# Altium footprint library ad.PcbLib: 129 footprints (part 5 of 12)
Each footprint in its own frame and in the unit in brackets; x right, y up, seen from the top. Pads: shape width x height; smd on the part's side, far side on the other; paste and mask are expansions set on the pad; w line width, h text height; cw(c..) or ccw(c..) is an arc to the next point about the centre after c.
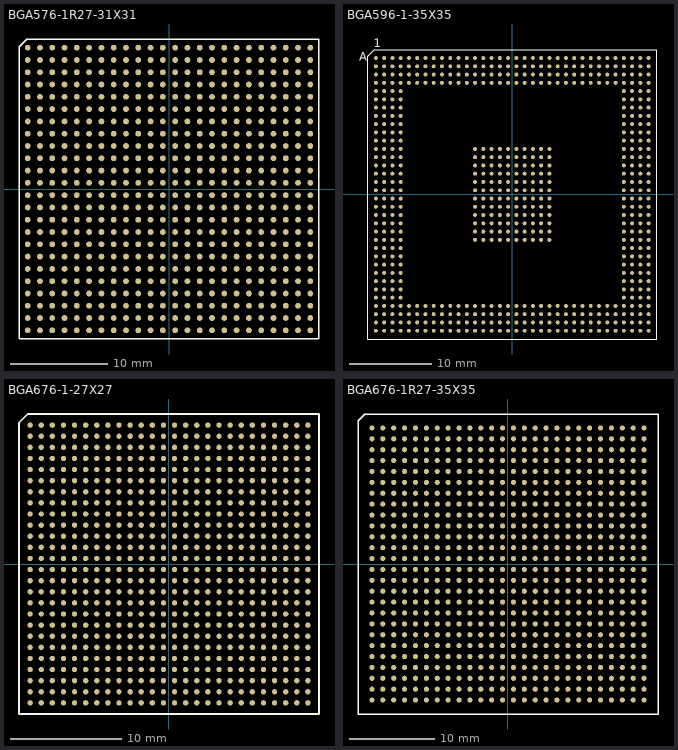
[diagram p4: the footprints below, top view; thin cyan lines are the x and y axes]

## BGA576-1R27-31X31 [mm]
pads (576):
  round 0.6 smd: A1(-14.605,14.605) A2(-13.335,14.605) A3(-12.065,14.605) A4(-10.795,14.605) A5(-9.525,14.605) A6(-8.255,14.605) A7(-6.985,14.605) A8(-5.715,14.605) A9(-4.445,14.605) A10(-3.175,14.605) A11(-1.905,14.605) A12(-0.635,14.605) A13(0.635,14.605) A14(1.905,14.605) A15(3.175,14.605) A16(4.445,14.605) A17(5.715,14.605) A18(6.985,14.605) A19(8.255,14.605) A20(9.525,14.605) A21(10.795,14.605) A22(12.065,14.605) A23(13.335,14.605) A24(14.605,14.605) AA1(-14.605,-10.795) AA2(-13.335,-10.795) AA3(-12.065,-10.795) AA4(-10.795,-10.795) AA5(-9.525,-10.795) AA6(-8.255,-10.795) AA7(-6.985,-10.795) AA8(-5.715,-10.795) AA9(-4.445,-10.795) AA10(-3.175,-10.795) AA11(-1.905,-10.795) AA12(-0.635,-10.795) AA13(0.635,-10.795) AA14(1.905,-10.795) AA15(3.175,-10.795) AA16(4.445,-10.795) AA17(5.715,-10.795) AA18(6.985,-10.795) AA19(8.255,-10.795) AA20(9.525,-10.795) AA21(10.795,-10.795) AA22(12.065,-10.795) AA23(13.335,-10.795) AA24(14.605,-10.795) AB1(-14.605,-12.065) AB2(-13.335,-12.065) AB3(-12.065,-12.065) AB4(-10.795,-12.065) AB5(-9.525,-12.065) AB6(-8.255,-12.065) AB7(-6.985,-12.065) AB8(-5.715,-12.065) AB9(-4.445,-12.065) AB10(-3.175,-12.065) AB11(-1.905,-12.065) AB12(-0.635,-12.065) AB13(0.635,-12.065) AB14(1.905,-12.065) AB15(3.175,-12.065) AB16(4.445,-12.065) AB17(5.715,-12.065) AB18(6.985,-12.065) AB19(8.255,-12.065) AB20(9.525,-12.065) AB21(10.795,-12.065) AB22(12.065,-12.065) AB23(13.335,-12.065) AB24(14.605,-12.065) AC1(-14.605,-13.335) AC2(-13.335,-13.335) AC3(-12.065,-13.335) AC4(-10.795,-13.335) AC5(-9.525,-13.335) AC6(-8.255,-13.335) AC7(-6.985,-13.335) AC8(-5.715,-13.335) AC9(-4.445,-13.335) AC10(-3.175,-13.335) AC11(-1.905,-13.335) AC12(-0.635,-13.335) AC13(0.635,-13.335) AC14(1.905,-13.335) AC15(3.175,-13.335) AC16(4.445,-13.335) AC17(5.715,-13.335) AC18(6.985,-13.335) AC19(8.255,-13.335) AC20(9.525,-13.335) AC21(10.795,-13.335) AC22(12.065,-13.335) AC23(13.335,-13.335) AC24(14.605,-13.335) AD1(-14.605,-14.605) AD2(-13.335,-14.605) AD3(-12.065,-14.605) AD4(-10.795,-14.605) AD5(-9.525,-14.605) AD6(-8.255,-14.605) AD7(-6.985,-14.605) AD8(-5.715,-14.605) AD9(-4.445,-14.605) AD10(-3.175,-14.605) AD11(-1.905,-14.605) AD12(-0.635,-14.605) AD13(0.635,-14.605) AD14(1.905,-14.605) AD15(3.175,-14.605) AD16(4.445,-14.605) AD17(5.715,-14.605) AD18(6.985,-14.605) AD19(8.255,-14.605) AD20(9.525,-14.605) AD21(10.795,-14.605) AD22(12.065,-14.605) AD23(13.335,-14.605) AD24(14.605,-14.605) B1(-14.605,13.335) B2(-13.335,13.335) B3(-12.065,13.335) B4(-10.795,13.335) B5(-9.525,13.335) B6(-8.255,13.335) B7(-6.985,13.335) B8(-5.715,13.335) B9(-4.445,13.335) B10(-3.175,13.335) B11(-1.905,13.335) B12(-0.635,13.335) B13(0.635,13.335) B14(1.905,13.335) B15(3.175,13.335) B16(4.445,13.335) B17(5.715,13.335) B18(6.985,13.335) B19(8.255,13.335) B20(9.525,13.335) B21(10.795,13.335) B22(12.065,13.335) B23(13.335,13.335) B24(14.605,13.335) C1(-14.605,12.065) C2(-13.335,12.065) C3(-12.065,12.065) C4(-10.795,12.065) C5(-9.525,12.065) C6(-8.255,12.065) C7(-6.985,12.065) C8(-5.715,12.065) C9(-4.445,12.065) C10(-3.175,12.065) C11(-1.905,12.065) C12(-0.635,12.065) C13(0.635,12.065) C14(1.905,12.065) C15(3.175,12.065) C16(4.445,12.065) C17(5.715,12.065) C18(6.985,12.065) C19(8.255,12.065) C20(9.525,12.065) C21(10.795,12.065) C22(12.065,12.065) C23(13.335,12.065) C24(14.605,12.065) D1(-14.605,10.795) D2(-13.335,10.795) D3(-12.065,10.795) D4(-10.795,10.795) D5(-9.525,10.795) D6(-8.255,10.795) D7(-6.985,10.795) D8(-5.715,10.795) D9(-4.445,10.795) D10(-3.175,10.795) D11(-1.905,10.795) D12(-0.635,10.795) D13(0.635,10.795) D14(1.905,10.795) D15(3.175,10.795) D16(4.445,10.795) D17(5.715,10.795) D18(6.985,10.795) D19(8.255,10.795) D20(9.525,10.795) D21(10.795,10.795) D22(12.065,10.795) D23(13.335,10.795) D24(14.605,10.795) E1(-14.605,9.525) E2(-13.335,9.525) E3(-12.065,9.525) E4(-10.795,9.525) E5(-9.525,9.525) E6(-8.255,9.525) E7(-6.985,9.525) E8(-5.715,9.525) E9(-4.445,9.525) E10(-3.175,9.525) E11(-1.905,9.525) E12(-0.635,9.525) E13(0.635,9.525) E14(1.905,9.525) E15(3.175,9.525) E16(4.445,9.525) E17(5.715,9.525) E18(6.985,9.525) E19(8.255,9.525) E20(9.525,9.525) E21(10.795,9.525) E22(12.065,9.525) E23(13.335,9.525) E24(14.605,9.525) F1(-14.605,8.255) F2(-13.335,8.255) F3(-12.065,8.255) F4(-10.795,8.255) F5(-9.525,8.255) F6(-8.255,8.255) F7(-6.985,8.255) F8(-5.715,8.255) F9(-4.445,8.255) F10(-3.175,8.255) F11(-1.905,8.255) F12(-0.635,8.255) F13(0.635,8.255) F14(1.905,8.255) F15(3.175,8.255) F16(4.445,8.255) F17(5.715,8.255) F18(6.985,8.255) F19(8.255,8.255) F20(9.525,8.255) F21(10.795,8.255) F22(12.065,8.255) F23(13.335,8.255) F24(14.605,8.255) G1(-14.605,6.985) G2(-13.335,6.985) G3(-12.065,6.985) G4(-10.795,6.985) G5(-9.525,6.985) G6(-8.255,6.985) G7(-6.985,6.985) G8(-5.715,6.985) G9(-4.445,6.985) G10(-3.175,6.985) G11(-1.905,6.985) G12(-0.635,6.985) G13(0.635,6.985) G14(1.905,6.985) G15(3.175,6.985) G16(4.445,6.985) G17(5.715,6.985) G18(6.985,6.985) G19(8.255,6.985) G20(9.525,6.985) G21(10.795,6.985) G22(12.065,6.985) G23(13.335,6.985) G24(14.605,6.985) H1(-14.605,5.715) H2(-13.335,5.715) H3(-12.065,5.715) H4(-10.795,5.715) H5(-9.525,5.715) H6(-8.255,5.715) H7(-6.985,5.715) H8(-5.715,5.715) H9(-4.445,5.715) H10(-3.175,5.715) H11(-1.905,5.715) H12(-0.635,5.715) H13(0.635,5.715) H14(1.905,5.715) H15(3.175,5.715) H16(4.445,5.715) H17(5.715,5.715) H18(6.985,5.715) H19(8.255,5.715) H20(9.525,5.715) H21(10.795,5.715) H22(12.065,5.715) H23(13.335,5.715) H24(14.605,5.715) J1(-14.605,4.445) J2(-13.335,4.445) J3(-12.065,4.445) J4(-10.795,4.445) J5(-9.525,4.445) J6(-8.255,4.445) J7(-6.985,4.445) J8(-5.715,4.445) J9(-4.445,4.445) J10(-3.175,4.445) J11(-1.905,4.445) J12(-0.635,4.445) J13(0.635,4.445) J14(1.905,4.445) J15(3.175,4.445) J16(4.445,4.445) J17(5.715,4.445) J18(6.985,4.445) J19(8.255,4.445) J20(9.525,4.445) J21(10.795,4.445) J22(12.065,4.445) J23(13.335,4.445) J24(14.605,4.445) K1(-14.605,3.175) K2(-13.335,3.175) K3(-12.065,3.175) K4(-10.795,3.175) K5(-9.525,3.175) K6(-8.255,3.175) K7(-6.985,3.175) K8(-5.715,3.175) K9(-4.445,3.175) K10(-3.175,3.175) K11(-1.905,3.175) K12(-0.635,3.175) K13(0.635,3.175) K14(1.905,3.175) K15(3.175,3.175) K16(4.445,3.175) K17(5.715,3.175) K18(6.985,3.175) K19(8.255,3.175) K20(9.525,3.175) K21(10.795,3.175) K22(12.065,3.175) K23(13.335,3.175) K24(14.605,3.175) L1(-14.605,1.905) L2(-13.335,1.905) L3(-12.065,1.905) L4(-10.795,1.905) L5(-9.525,1.905) L6(-8.255,1.905) L7(-6.985,1.905) L8(-5.715,1.905) L9(-4.445,1.905) L10(-3.175,1.905) L11(-1.905,1.905) L12(-0.635,1.905) L13(0.635,1.905) L14(1.905,1.905) L15(3.175,1.905) L16(4.445,1.905) L17(5.715,1.905) L18(6.985,1.905) L19(8.255,1.905) L20(9.525,1.905) L21(10.795,1.905) L22(12.065,1.905) L23(13.335,1.905) L24(14.605,1.905) M1(-14.605,0.635) M2(-13.335,0.635) M3(-12.065,0.635) M4(-10.795,0.635) M5(-9.525,0.635) M6(-8.255,0.635) M7(-6.985,0.635) M8(-5.715,0.635) M9(-4.445,0.635) M10(-3.175,0.635) M11(-1.905,0.635) M12(-0.635,0.635) M13(0.635,0.635) M14(1.905,0.635) M15(3.175,0.635) M16(4.445,0.635) M17(5.715,0.635) M18(6.985,0.635) M19(8.255,0.635) M20(9.525,0.635) M21(10.795,0.635) M22(12.065,0.635) M23(13.335,0.635) M24(14.605,0.635) N1(-14.605,-0.635) N2(-13.335,-0.635) N3(-12.065,-0.635) N4(-10.795,-0.635) N5(-9.525,-0.635) N6(-8.255,-0.635) N7(-6.985,-0.635) N8(-5.715,-0.635) N9(-4.445,-0.635) N10(-3.175,-0.635) N11(-1.905,-0.635) N12(-0.635,-0.635) N13(0.635,-0.635) N14(1.905,-0.635) N15(3.175,-0.635) N16(4.445,-0.635) N17(5.715,-0.635) N18(6.985,-0.635) N19(8.255,-0.635) N20(9.525,-0.635) N21(10.795,-0.635) N22(12.065,-0.635) N23(13.335,-0.635) N24(14.605,-0.635) P1(-14.605,-1.905) P2(-13.335,-1.905) P3(-12.065,-1.905) P4(-10.795,-1.905) P5(-9.525,-1.905) P6(-8.255,-1.905) P7(-6.985,-1.905) P8(-5.715,-1.905) P9(-4.445,-1.905) P10(-3.175,-1.905) P11(-1.905,-1.905) P12(-0.635,-1.905) P13(0.635,-1.905) P14(1.905,-1.905) P15(3.175,-1.905) P16(4.445,-1.905) P17(5.715,-1.905) P18(6.985,-1.905) P19(8.255,-1.905) P20(9.525,-1.905) P21(10.795,-1.905) P22(12.065,-1.905) P23(13.335,-1.905) P24(14.605,-1.905) R1(-14.605,-3.175) R2(-13.335,-3.175) R3(-12.065,-3.175) R4(-10.795,-3.175) R5(-9.525,-3.175) R6(-8.255,-3.175) R7(-6.985,-3.175) R8(-5.715,-3.175) R9(-4.445,-3.175) R10(-3.175,-3.175) R11(-1.905,-3.175) R12(-0.635,-3.175) R13(0.635,-3.175) R14(1.905,-3.175) R15(3.175,-3.175) R16(4.445,-3.175) R17(5.715,-3.175) R18(6.985,-3.175) R19(8.255,-3.175) R20(9.525,-3.175) R21(10.795,-3.175) R22(12.065,-3.175) R23(13.335,-3.175) R24(14.605,-3.175) T1(-14.605,-4.445) T2(-13.335,-4.445) T3(-12.065,-4.445) T4(-10.795,-4.445) T5(-9.525,-4.445) T6(-8.255,-4.445) T7(-6.985,-4.445) T8(-5.715,-4.445) T9(-4.445,-4.445) T10(-3.175,-4.445) T11(-1.905,-4.445) T12(-0.635,-4.445) T13(0.635,-4.445) T14(1.905,-4.445) T15(3.175,-4.445) T16(4.445,-4.445) T17(5.715,-4.445) T18(6.985,-4.445) T19(8.255,-4.445) T20(9.525,-4.445) T21(10.795,-4.445) T22(12.065,-4.445) T23(13.335,-4.445) T24(14.605,-4.445) U1(-14.605,-5.715) U2(-13.335,-5.715) U3(-12.065,-5.715) U4(-10.795,-5.715) U5(-9.525,-5.715) U6(-8.255,-5.715) U7(-6.985,-5.715) U8(-5.715,-5.715) U9(-4.445,-5.715) U10(-3.175,-5.715) U11(-1.905,-5.715) U12(-0.635,-5.715) U13(0.635,-5.715) U14(1.905,-5.715) U15(3.175,-5.715) U16(4.445,-5.715) U17(5.715,-5.715) U18(6.985,-5.715) U19(8.255,-5.715) U20(9.525,-5.715) U21(10.795,-5.715) U22(12.065,-5.715) U23(13.335,-5.715) U24(14.605,-5.715) V1(-14.605,-6.985) V2(-13.335,-6.985) V3(-12.065,-6.985) V4(-10.795,-6.985) V5(-9.525,-6.985) V6(-8.255,-6.985) V7(-6.985,-6.985) V8(-5.715,-6.985) V9(-4.445,-6.985) V10(-3.175,-6.985) V11(-1.905,-6.985) V12(-0.635,-6.985) V13(0.635,-6.985) V14(1.905,-6.985) V15(3.175,-6.985) V16(4.445,-6.985) V17(5.715,-6.985) V18(6.985,-6.985) V19(8.255,-6.985) V20(9.525,-6.985) V21(10.795,-6.985) V22(12.065,-6.985) V23(13.335,-6.985) V24(14.605,-6.985) W1(-14.605,-8.255) W2(-13.335,-8.255) W3(-12.065,-8.255) W4(-10.795,-8.255) W5(-9.525,-8.255) W6(-8.255,-8.255) W7(-6.985,-8.255) W8(-5.715,-8.255) W9(-4.445,-8.255) W10(-3.175,-8.255) W11(-1.905,-8.255) W12(-0.635,-8.255) W13(0.635,-8.255) W14(1.905,-8.255) W15(3.175,-8.255) W16(4.445,-8.255) W17(5.715,-8.255) W18(6.985,-8.255) W19(8.255,-8.255) W20(9.525,-8.255) W21(10.795,-8.255) W22(12.065,-8.255) W23(13.335,-8.255) W24(14.605,-8.255) Y1(-14.605,-9.525) Y2(-13.335,-9.525) Y3(-12.065,-9.525) Y4(-10.795,-9.525) Y5(-9.525,-9.525) Y6(-8.255,-9.525) Y7(-6.985,-9.525) Y8(-5.715,-9.525) Y9(-4.445,-9.525) Y10(-3.175,-9.525) Y11(-1.905,-9.525) Y12(-0.635,-9.525) Y13(0.635,-9.525) Y14(1.905,-9.525) Y15(3.175,-9.525) Y16(4.445,-9.525) Y17(5.715,-9.525) Y18(6.985,-9.525) Y19(8.255,-9.525) Y20(9.525,-9.525) Y21(10.795,-9.525) Y22(12.065,-9.525) Y23(13.335,-9.525) Y24(14.605,-9.525)
Top Overlay:
  lines w0.15: -15.5,-15.5 -15.5,14.7 -14.7,15.5 15.5,15.5 15.5,-15.5 -15.5,-15.5

## BGA596-1-35X35 [mm]
pads (600):
  round 0.48 smd: A1(-16.5,16.5) A2(-15.5,16.5) A3(-14.5,16.5) A4(-13.5,16.5) A5(-12.5,16.5) A6(-11.5,16.5) A7(-10.5,16.5) A8(-9.5,16.5) A9(-8.5,16.5) A10(-7.5,16.5) A11(-6.5,16.5) A12(-5.5,16.5) A13(-4.5,16.5) A14(-3.5,16.5) A15(-2.5,16.5) A16(-1.5,16.5) A17(-0.5,16.5) A18(0.5,16.5) A19(1.5,16.5) A20(2.5,16.5) A21(3.5,16.5) A22(4.5,16.5) A23(5.5,16.5) A24(6.5,16.5) A25(7.5,16.5) A26(8.5,16.5) A27(9.5,16.5) A28(10.5,16.5) A29(11.5,16.5) A30(12.5,16.5) A31(13.5,16.5) A32(14.5,16.5) A33(15.5,16.5) A34(16.5,16.5) AA1(-16.5,-3.5) AA2(-15.5,-3.5) AA3(-14.5,-3.5) AA4(-13.5,-3.5) AA13(-4.5,-3.5) AA14(-3.5,-3.5) AA15(-2.5,-3.5) AA16(-1.5,-3.5) AA17(-0.5,-3.5) AA18(0.5,-3.5) AA19(1.5,-3.5) AA20(2.5,-3.5) AA21(3.5,-3.5) AA22(4.5,-3.5) AA31(13.5,-3.5) AA32(14.5,-3.5) AA33(15.5,-3.5) AA34(16.5,-3.5) AB1(-16.5,-4.5) AB2(-15.5,-4.5) AB3(-14.5,-4.5) AB4(-13.5,-4.5) AB13(-4.5,-4.5) AB14(-3.5,-4.5) AB15(-2.5,-4.5) AB16(-1.5,-4.5) AB17(-0.5,-4.5) AB18(0.5,-4.5) AB19(1.5,-4.5) AB20(2.5,-4.5) AB21(3.5,-4.5) AB22(4.5,-4.5) AB31(13.5,-4.5) AB32(14.5,-4.5) AB33(15.5,-4.5) AB34(16.5,-4.5) AC1(-16.5,-5.5) AC2(-15.5,-5.5) AC3(-14.5,-5.5) AC4(-13.5,-5.5) AC13(-4.5,-5.5) AC14(-3.5,-5.5) AC15(-2.5,-5.5) AC16(-1.5,-5.5) AC17(-0.5,-5.5) AC18(0.5,-5.5) AC19(1.5,-5.5) AC20(2.5,-5.5) AC21(3.5,-5.5) AC22(4.5,-5.5) AC31(13.5,-5.5) AC32(14.5,-5.5) AC33(15.5,-5.5) AC34(16.5,-5.5) AD1(-16.5,-6.5) AD2(-15.5,-6.5) AD3(-14.5,-6.5) AD4(-13.5,-6.5) AD31(13.5,-6.5) AD32(14.5,-6.5) AD33(15.5,-6.5) AD34(16.5,-6.5) AE1(-16.5,-7.5) AE2(-15.5,-7.5) AE3(-14.5,-7.5) AE4(-13.5,-7.5) AE31(13.5,-7.5) AE32(14.5,-7.5) AE33(15.5,-7.5) AE34(16.5,-7.5) AF1(-16.5,-8.5) AF2(-15.5,-8.5) AF3(-14.5,-8.5) AF4(-13.5,-8.5) AF31(13.5,-8.5) AF32(14.5,-8.5) AF33(15.5,-8.5) AF34(16.5,-8.5) AG1(-16.5,-9.5) AG2(-15.5,-9.5) AG3(-14.5,-9.5) AG4(-13.5,-9.5) AG31(13.5,-9.5) AG32(14.5,-9.5) AG33(15.5,-9.5) AG34(16.5,-9.5) AH1(-16.5,-10.5) AH2(-15.5,-10.5) AH3(-14.5,-10.5) AH4(-13.5,-10.5) AH31(13.5,-10.5) AH32(14.5,-10.5) AH33(15.5,-10.5) AH34(16.5,-10.5) AJ1(-16.5,-11.5) AJ2(-15.5,-11.5) AJ3(-14.5,-11.5) AJ4(-13.5,-11.5) AJ31(13.5,-11.5) AJ32(14.5,-11.5) AJ33(15.5,-11.5) AJ34(16.5,-11.5) AK1(-16.5,-12.5) AK2(-15.5,-12.5) AK3(-14.5,-12.5) AK4(-13.5,-12.5) AK31(13.5,-12.5) AK32(14.5,-12.5) AK33(15.5,-12.5) AK34(16.5,-12.5) AL1(-16.5,-13.5) AL2(-15.5,-13.5) AL3(-14.5,-13.5) AL4(-13.5,-13.5) AL5(-12.5,-13.5) AL6(-11.5,-13.5) AL7(-10.5,-13.5) AL8(-9.5,-13.5) AL9(-8.5,-13.5) AL10(-7.5,-13.5) AL11(-6.5,-13.5) AL12(-5.5,-13.5) AL13(-4.5,-13.5) AL14(-3.5,-13.5) AL15(-2.5,-13.5) AL16(-1.5,-13.5) AL17(-0.5,-13.5) AL18(0.5,-13.5) AL19(1.5,-13.5) AL20(2.5,-13.5) AL21(3.5,-13.5) AL22(4.5,-13.5) AL23(5.5,-13.5) AL24(6.5,-13.5) AL25(7.5,-13.5) AL26(8.5,-13.5) AL27(9.5,-13.5) AL28(10.5,-13.5) AL29(11.5,-13.5) AL30(12.5,-13.5) AL31(13.5,-13.5) AL32(14.5,-13.5) AL33(15.5,-13.5) AL34(16.5,-13.5) AM1(-16.5,-14.5) AM2(-15.5,-14.5) AM3(-14.5,-14.5) AM4(-13.5,-14.5) AM5(-12.5,-14.5) AM6(-11.5,-14.5) AM7(-10.5,-14.5) AM8(-9.5,-14.5) AM9(-8.5,-14.5) AM10(-7.5,-14.5) AM11(-6.5,-14.5) AM12(-5.5,-14.5) AM13(-4.5,-14.5) AM14(-3.5,-14.5) AM15(-2.5,-14.5) AM16(-1.5,-14.5) AM17(-0.5,-14.5) AM18(0.5,-14.5) AM19(1.5,-14.5) AM20(2.5,-14.5) AM21(3.5,-14.5) AM22(4.5,-14.5) AM23(5.5,-14.5) AM24(6.5,-14.5) AM25(7.5,-14.5) AM26(8.5,-14.5) AM27(9.5,-14.5) AM28(10.5,-14.5) AM29(11.5,-14.5) AM30(12.5,-14.5) AM31(13.5,-14.5) AM32(14.5,-14.5) AM33(15.5,-14.5) AM34(16.5,-14.5) AN1(-16.5,-15.5) AN2(-15.5,-15.5) AN3(-14.5,-15.5) AN4(-13.5,-15.5) AN5(-12.5,-15.5) AN6(-11.5,-15.5) AN7(-10.5,-15.5) AN8(-9.5,-15.5) AN9(-8.5,-15.5) AN10(-7.5,-15.5) AN11(-6.5,-15.5) AN12(-5.5,-15.5) AN13(-4.5,-15.5) AN14(-3.5,-15.5) AN15(-2.5,-15.5) AN16(-1.5,-15.5) AN17(-0.5,-15.5) AN18(0.5,-15.5) AN19(1.5,-15.5) AN20(2.5,-15.5) AN21(3.5,-15.5) AN22(4.5,-15.5) AN23(5.5,-15.5) AN24(6.5,-15.5) AN25(7.5,-15.5) AN26(8.5,-15.5) AN27(9.5,-15.5) AN28(10.5,-15.5) AN29(11.5,-15.5) AN30(12.5,-15.5) AN31(13.5,-15.5) AN32(14.5,-15.5) AN33(15.5,-15.5) AN34(16.5,-15.5) AP1(-16.5,-16.5) AP2(-15.5,-16.5) AP3(-14.5,-16.5) AP4(-13.5,-16.5) AP5(-12.5,-16.5) AP6(-11.5,-16.5) AP7(-10.5,-16.5) AP8(-9.5,-16.5) AP9(-8.5,-16.5) AP10(-7.5,-16.5) AP11(-6.5,-16.5) AP12(-5.5,-16.5) AP13(-4.5,-16.5) AP14(-3.5,-16.5) AP15(-2.5,-16.5) AP16(-1.5,-16.5) AP17(-0.5,-16.5) AP18(0.5,-16.5) AP19(1.5,-16.5) AP20(2.5,-16.5) AP21(3.5,-16.5) AP22(4.5,-16.5) AP23(5.5,-16.5) AP24(6.5,-16.5) AP25(7.5,-16.5) AP26(8.5,-16.5) AP27(9.5,-16.5) AP28(10.5,-16.5) AP29(11.5,-16.5) AP30(12.5,-16.5) AP31(13.5,-16.5) AP32(14.5,-16.5) AP33(15.5,-16.5) AP34(16.5,-16.5) B1(-16.5,15.5) B2(-15.5,15.5) B3(-14.5,15.5) B4(-13.5,15.5) B5(-12.5,15.5) B6(-11.5,15.5) B7(-10.5,15.5) B8(-9.5,15.5) B9(-8.5,15.5) B10(-7.5,15.5) B11(-6.5,15.5) B12(-5.5,15.5) B13(-4.5,15.5) B14(-3.5,15.5) B15(-2.5,15.5) B16(-1.5,15.5) B17(-0.5,15.5) B18(0.5,15.5) B19(1.5,15.5) B20(2.5,15.5) B21(3.5,15.5) B22(4.5,15.5) B23(5.5,15.5) B24(6.5,15.5) B25(7.5,15.5) B26(8.5,15.5) B27(9.5,15.5) B28(10.5,15.5) B29(11.5,15.5) B30(12.5,15.5) B31(13.5,15.5) B32(14.5,15.5) B33(15.5,15.5) B34(16.5,15.5) C1(-16.5,14.5) C2(-15.5,14.5) C3(-14.5,14.5) C4(-13.5,14.5) C5(-12.5,14.5) C6(-11.5,14.5) C7(-10.5,14.5) C8(-9.5,14.5) C9(-8.5,14.5) C10(-7.5,14.5) C11(-6.5,14.5) C12(-5.5,14.5) C13(-4.5,14.5) C14(-3.5,14.5) C15(-2.5,14.5) C16(-1.5,14.5) C17(-0.5,14.5) C18(0.5,14.5) C19(1.5,14.5) C20(2.5,14.5) C21(3.5,14.5) C22(4.5,14.5) C23(5.5,14.5) C24(6.5,14.5) C25(7.5,14.5) C26(8.5,14.5) C27(9.5,14.5) C28(10.5,14.5) C29(11.5,14.5) C30(12.5,14.5) C31(13.5,14.5) C32(14.5,14.5) C33(15.5,14.5) C34(16.5,14.5) D1(-16.5,13.5) D2(-15.5,13.5) D3(-14.5,13.5) D4(-13.5,13.5) D5(-12.5,13.5) D6(-11.5,13.5) D7(-10.5,13.5) D8(-9.5,13.5) D9(-8.5,13.5) D10(-7.5,13.5) D11(-6.5,13.5) D12(-5.5,13.5) D13(-4.5,13.5) D14(-3.5,13.5) D15(-2.5,13.5) D16(-1.5,13.5) D17(-0.5,13.5) D18(0.5,13.5) D19(1.5,13.5) D20(2.5,13.5) D21(3.5,13.5) D22(4.5,13.5) D23(5.5,13.5) D24(6.5,13.5) D25(7.5,13.5) D26(8.5,13.5) D27(9.5,13.5) D28(10.5,13.5) D29(11.5,13.5) D30(12.5,13.5) D31(13.5,13.5) D32(14.5,13.5) D33(15.5,13.5) D34(16.5,13.5) E1(-16.5,12.5) E2(-15.5,12.5) E3(-14.5,12.5) E4(-13.5,12.5) E31(13.5,12.5) E32(14.5,12.5) E33(15.5,12.5) E34(16.5,12.5) F1(-16.5,11.5) F2(-15.5,11.5) F3(-14.5,11.5) F4(-13.5,11.5) F31(13.5,11.5) F32(14.5,11.5) F33(15.5,11.5) F34(16.5,11.5) G1(-16.5,10.5) G2(-15.5,10.5) G3(-14.5,10.5) G4(-13.5,10.5) G31(13.5,10.5) G32(14.5,10.5) G33(15.5,10.5) G34(16.5,10.5) H1(-16.5,9.5) H2(-15.5,9.5) H3(-14.5,9.5) H4(-13.5,9.5) H31(13.5,9.5) H32(14.5,9.5) H33(15.5,9.5) H34(16.5,9.5) J1(-16.5,8.5) J2(-15.5,8.5) J3(-14.5,8.5) J4(-13.5,8.5) J31(13.5,8.5) J32(14.5,8.5) J33(15.5,8.5) J34(16.5,8.5) K1(-16.5,7.5) K2(-15.5,7.5) K3(-14.5,7.5) K4(-13.5,7.5) K31(13.5,7.5) K32(14.5,7.5) K33(15.5,7.5) K34(16.5,7.5) L1(-16.5,6.5) L2(-15.5,6.5) L3(-14.5,6.5) L4(-13.5,6.5) L31(13.5,6.5) L32(14.5,6.5) L33(15.5,6.5) L34(16.5,6.5) M1(-16.5,5.5) M2(-15.5,5.5) M3(-14.5,5.5) M4(-13.5,5.5) M13(-4.5,5.5) M14(-3.5,5.5) M15(-2.5,5.5) M16(-1.5,5.5) M17(-0.5,5.5) M18(0.5,5.5) M19(1.5,5.5) M20(2.5,5.5) M21(3.5,5.5) M22(4.5,5.5) M31(13.5,5.5) M32(14.5,5.5) M33(15.5,5.5) M34(16.5,5.5) N1(-16.5,4.5) N2(-15.5,4.5) N3(-14.5,4.5) N4(-13.5,4.5) N13(-4.5,4.5) N14(-3.5,4.5) N15(-2.5,4.5) N16(-1.5,4.5) N17(-0.5,4.5) N18(0.5,4.5) N19(1.5,4.5) N20(2.5,4.5) N21(3.5,4.5) N22(4.5,4.5) N31(13.5,4.5) N32(14.5,4.5) N33(15.5,4.5) N34(16.5,4.5) P1(-16.5,3.5) P2(-15.5,3.5) P3(-14.5,3.5) P4(-13.5,3.5) P13(-4.5,3.5) P14(-3.5,3.5) P15(-2.5,3.5) P16(-1.5,3.5) P17(-0.5,3.5) P18(0.5,3.5) P19(1.5,3.5) P20(2.5,3.5) P21(3.5,3.5) P22(4.5,3.5) P31(13.5,3.5) P32(14.5,3.5) P33(15.5,3.5) P34(16.5,3.5) R1(-16.5,2.5) R2(-15.5,2.5) R3(-14.5,2.5) R4(-13.5,2.5) R13(-4.5,2.5) R14(-3.5,2.5) R15(-2.5,2.5) R16(-1.5,2.5) R17(-0.5,2.5) R18(0.5,2.5) R19(1.5,2.5) R20(2.5,2.5) R21(3.5,2.5) R22(4.5,2.5) R31(13.5,2.5) R32(14.5,2.5) R33(15.5,2.5) R34(16.5,2.5) T1(-16.5,1.5) T2(-15.5,1.5) T3(-14.5,1.5) T4(-13.5,1.5) T13(-4.5,1.5) T14(-3.5,1.5) T15(-2.5,1.5) T16(-1.5,1.5) T17(-0.5,1.5) T18(0.5,1.5) T19(1.5,1.5) T20(2.5,1.5) T21(3.5,1.5) T22(4.5,1.5) T31(13.5,1.5) T32(14.5,1.5) T33(15.5,1.5) T34(16.5,1.5) U1(-16.5,0.5) U2(-15.5,0.5) U3(-14.5,0.5) U4(-13.5,0.5) U13(-4.5,0.5) U14(-3.5,0.5) U15(-2.5,0.5) U16(-1.5,0.5) U17(-0.5,0.5) U18(0.5,0.5) U19(1.5,0.5) U20(2.5,0.5) U21(3.5,0.5) U22(4.5,0.5) U31(13.5,0.5) U32(14.5,0.5) U33(15.5,0.5) U34(16.5,0.5) V1(-16.5,-0.5) V2(-15.5,-0.5) V3(-14.5,-0.5) V4(-13.5,-0.5) V13(-4.5,-0.5) V14(-3.5,-0.5) V15(-2.5,-0.5) V16(-1.5,-0.5) V17(-0.5,-0.5) V18(0.5,-0.5) V19(1.5,-0.5) V20(2.5,-0.5) V21(3.5,-0.5) V22(4.5,-0.5) V31(13.5,-0.5) V32(14.5,-0.5) V33(15.5,-0.5) V34(16.5,-0.5) W1(-16.5,-1.5) W2(-15.5,-1.5) W3(-14.5,-1.5) W4(-13.5,-1.5) W13(-4.5,-1.5) W14(-3.5,-1.5) W15(-2.5,-1.5) W16(-1.5,-1.5) W17(-0.5,-1.5) W18(0.5,-1.5) W19(1.5,-1.5) W20(2.5,-1.5) W21(3.5,-1.5) W22(4.5,-1.5) W31(13.5,-1.5) W32(14.5,-1.5) W33(15.5,-1.5) W34(16.5,-1.5) Y1(-16.5,-2.5) Y2(-15.5,-2.5) Y3(-14.5,-2.5) Y4(-13.5,-2.5) Y13(-4.5,-2.5) Y14(-3.5,-2.5) Y15(-2.5,-2.5) Y16(-1.5,-2.5) Y17(-0.5,-2.5) Y18(0.5,-2.5) Y19(1.5,-2.5) Y20(2.5,-2.5) Y21(3.5,-2.5) Y22(4.5,-2.5) Y31(13.5,-2.5) Y32(14.5,-2.5) Y33(15.5,-2.5) Y34(16.5,-2.5)
Top Overlay:
  lines w0.15: -17.5,-17.5 -17.5,16.7 -16.7,17.5 17.5,17.5 17.5,-17.5 -17.5,-17.5
  text "1" at -16.78,17.785 h1.02
  text "A" at -18.525,16.14 h1.02

## BGA676-1-27X27 [mm]
pads (676):
  round 0.48 smd: A1(-12.5,12.5) A2(-11.5,12.5) A3(-10.5,12.5) A4(-9.5,12.5) A5(-8.5,12.5) A6(-7.5,12.5) A7(-6.5,12.5) A8(-5.5,12.5) A9(-4.5,12.5) A10(-3.5,12.5) A11(-2.5,12.5) A12(-1.5,12.5) A13(-0.5,12.5) A14(0.5,12.5) A15(1.5,12.5) A16(2.5,12.5) A17(3.5,12.5) A18(4.5,12.5) A19(5.5,12.5) A20(6.5,12.5) A21(7.5,12.5) A22(8.5,12.5) A23(9.5,12.5) A24(10.5,12.5) A25(11.5,12.5) A26(12.5,12.5) AA1(-12.5,-7.5) AA2(-11.5,-7.5) AA3(-10.5,-7.5) AA4(-9.5,-7.5) AA5(-8.5,-7.5) AA6(-7.5,-7.5) AA7(-6.5,-7.5) AA8(-5.5,-7.5) AA9(-4.5,-7.5) AA10(-3.5,-7.5) AA11(-2.5,-7.5) AA12(-1.5,-7.5) AA13(-0.5,-7.5) AA14(0.5,-7.5) AA15(1.5,-7.5) AA16(2.5,-7.5) AA17(3.5,-7.5) AA18(4.5,-7.5) AA19(5.5,-7.5) AA20(6.5,-7.5) AA21(7.5,-7.5) AA22(8.5,-7.5) AA23(9.5,-7.5) AA24(10.5,-7.5) AA25(11.5,-7.5) AA26(12.5,-7.5) AB1(-12.5,-8.5) AB2(-11.5,-8.5) AB3(-10.5,-8.5) AB4(-9.5,-8.5) AB5(-8.5,-8.5) AB6(-7.5,-8.5) AB7(-6.5,-8.5) AB8(-5.5,-8.5) AB9(-4.5,-8.5) AB10(-3.5,-8.5) AB11(-2.5,-8.5) AB12(-1.5,-8.5) AB13(-0.5,-8.5) AB14(0.5,-8.5) AB15(1.5,-8.5) AB16(2.5,-8.5) AB17(3.5,-8.5) AB18(4.5,-8.5) AB19(5.5,-8.5) AB20(6.5,-8.5) AB21(7.5,-8.5) AB22(8.5,-8.5) AB23(9.5,-8.5) AB24(10.5,-8.5) AB25(11.5,-8.5) AB26(12.5,-8.5) AC1(-12.5,-9.5) AC2(-11.5,-9.5) AC3(-10.5,-9.5) AC4(-9.5,-9.5) AC5(-8.5,-9.5) AC6(-7.5,-9.5) AC7(-6.5,-9.5) AC8(-5.5,-9.5) AC9(-4.5,-9.5) AC10(-3.5,-9.5) AC11(-2.5,-9.5) AC12(-1.5,-9.5) AC13(-0.5,-9.5) AC14(0.5,-9.5) AC15(1.5,-9.5) AC16(2.5,-9.5) AC17(3.5,-9.5) AC18(4.5,-9.5) AC19(5.5,-9.5) AC20(6.5,-9.5) AC21(7.5,-9.5) AC22(8.5,-9.5) AC23(9.5,-9.5) AC24(10.5,-9.5) AC25(11.5,-9.5) AC26(12.5,-9.5) AD1(-12.5,-10.5) AD2(-11.5,-10.5) AD3(-10.5,-10.5) AD4(-9.5,-10.5) AD5(-8.5,-10.5) AD6(-7.5,-10.5) AD7(-6.5,-10.5) AD8(-5.5,-10.5) AD9(-4.5,-10.5) AD10(-3.5,-10.5) AD11(-2.5,-10.5) AD12(-1.5,-10.5) AD13(-0.5,-10.5) AD14(0.5,-10.5) AD15(1.5,-10.5) AD16(2.5,-10.5) AD17(3.5,-10.5) AD18(4.5,-10.5) AD19(5.5,-10.5) AD20(6.5,-10.5) AD21(7.5,-10.5) AD22(8.5,-10.5) AD23(9.5,-10.5) AD24(10.5,-10.5) AD25(11.5,-10.5) AD26(12.5,-10.5) AE1(-12.5,-11.5) AE2(-11.5,-11.5) AE3(-10.5,-11.5) AE4(-9.5,-11.5) AE5(-8.5,-11.5) AE6(-7.5,-11.5) AE7(-6.5,-11.5) AE8(-5.5,-11.5) AE9(-4.5,-11.5) AE10(-3.5,-11.5) AE11(-2.5,-11.5) AE12(-1.5,-11.5) AE13(-0.5,-11.5) AE14(0.5,-11.5) AE15(1.5,-11.5) AE16(2.5,-11.5) AE17(3.5,-11.5) AE18(4.5,-11.5) AE19(5.5,-11.5) AE20(6.5,-11.5) AE21(7.5,-11.5) AE22(8.5,-11.5) AE23(9.5,-11.5) AE24(10.5,-11.5) AE25(11.5,-11.5) AE26(12.5,-11.5) AF1(-12.5,-12.5) AF2(-11.5,-12.5) AF3(-10.5,-12.5) AF4(-9.5,-12.5) AF5(-8.5,-12.5) AF6(-7.5,-12.5) AF7(-6.5,-12.5) AF8(-5.5,-12.5) AF9(-4.5,-12.5) AF10(-3.5,-12.5) AF11(-2.5,-12.5) AF12(-1.5,-12.5) AF13(-0.5,-12.5) AF14(0.5,-12.5) AF15(1.5,-12.5) AF16(2.5,-12.5) AF17(3.5,-12.5) AF18(4.5,-12.5) AF19(5.5,-12.5) AF20(6.5,-12.5) AF21(7.5,-12.5) AF22(8.5,-12.5) AF23(9.5,-12.5) AF24(10.5,-12.5) AF25(11.5,-12.5) AF26(12.5,-12.5) B1(-12.5,11.5) B2(-11.5,11.5) B3(-10.5,11.5) B4(-9.5,11.5) B5(-8.5,11.5) B6(-7.5,11.5) B7(-6.5,11.5) B8(-5.5,11.5) B9(-4.5,11.5) B10(-3.5,11.5) B11(-2.5,11.5) B12(-1.5,11.5) B13(-0.5,11.5) B14(0.5,11.5) B15(1.5,11.5) B16(2.5,11.5) B17(3.5,11.5) B18(4.5,11.5) B19(5.5,11.5) B20(6.5,11.5) B21(7.5,11.5) B22(8.5,11.5) B23(9.5,11.5) B24(10.5,11.5) B25(11.5,11.5) B26(12.5,11.5) C1(-12.5,10.5) C2(-11.5,10.5) C3(-10.5,10.5) C4(-9.5,10.5) C5(-8.5,10.5) C6(-7.5,10.5) C7(-6.5,10.5) C8(-5.5,10.5) C9(-4.5,10.5) C10(-3.5,10.5) C11(-2.5,10.5) C12(-1.5,10.5) C13(-0.5,10.5) C14(0.5,10.5) C15(1.5,10.5) C16(2.5,10.5) C17(3.5,10.5) C18(4.5,10.5) C19(5.5,10.5) C20(6.5,10.5) C21(7.5,10.5) C22(8.5,10.5) C23(9.5,10.5) C24(10.5,10.5) C25(11.5,10.5) C26(12.5,10.5) D1(-12.5,9.5) D2(-11.5,9.5) D3(-10.5,9.5) D4(-9.5,9.5) D5(-8.5,9.5) D6(-7.5,9.5) D7(-6.5,9.5) D8(-5.5,9.5) D9(-4.5,9.5) D10(-3.5,9.5) D11(-2.5,9.5) D12(-1.5,9.5) D13(-0.5,9.5) D14(0.5,9.5) D15(1.5,9.5) D16(2.5,9.5) D17(3.5,9.5) D18(4.5,9.5) D19(5.5,9.5) D20(6.5,9.5) D21(7.5,9.5) D22(8.5,9.5) D23(9.5,9.5) D24(10.5,9.5) D25(11.5,9.5) D26(12.5,9.5) E1(-12.5,8.5) E2(-11.5,8.5) E3(-10.5,8.5) E4(-9.5,8.5) E5(-8.5,8.5) E6(-7.5,8.5) E7(-6.5,8.5) E8(-5.5,8.5) E9(-4.5,8.5) E10(-3.5,8.5) E11(-2.5,8.5) E12(-1.5,8.5) E13(-0.5,8.5) E14(0.5,8.5) E15(1.5,8.5) E16(2.5,8.5) E17(3.5,8.5) E18(4.5,8.5) E19(5.5,8.5) E20(6.5,8.5) E21(7.5,8.5) E22(8.5,8.5) E23(9.5,8.5) E24(10.5,8.5) E25(11.5,8.5) E26(12.5,8.5) F1(-12.5,7.5) F2(-11.5,7.5) F3(-10.5,7.5) F4(-9.5,7.5) F5(-8.5,7.5) F6(-7.5,7.5) F7(-6.5,7.5) F8(-5.5,7.5) F9(-4.5,7.5) F10(-3.5,7.5) F11(-2.5,7.5) F12(-1.5,7.5) F13(-0.5,7.5) F14(0.5,7.5) F15(1.5,7.5) F16(2.5,7.5) F17(3.5,7.5) F18(4.5,7.5) F19(5.5,7.5) F20(6.5,7.5) F21(7.5,7.5) F22(8.5,7.5) F23(9.5,7.5) F24(10.5,7.5) F25(11.5,7.5) F26(12.5,7.5) G1(-12.5,6.5) G2(-11.5,6.5) G3(-10.5,6.5) G4(-9.5,6.5) G5(-8.5,6.5) G6(-7.5,6.5) G7(-6.5,6.5) G8(-5.5,6.5) G9(-4.5,6.5) G10(-3.5,6.5) G11(-2.5,6.5) G12(-1.5,6.5) G13(-0.5,6.5) G14(0.5,6.5) G15(1.5,6.5) G16(2.5,6.5) G17(3.5,6.5) G18(4.5,6.5) G19(5.5,6.5) G20(6.5,6.5) G21(7.5,6.5) G22(8.5,6.5) G23(9.5,6.5) G24(10.5,6.5) G25(11.5,6.5) G26(12.5,6.5) H1(-12.5,5.5) H2(-11.5,5.5) H3(-10.5,5.5) H4(-9.5,5.5) H5(-8.5,5.5) H6(-7.5,5.5) H7(-6.5,5.5) H8(-5.5,5.5) H9(-4.5,5.5) H10(-3.5,5.5) H11(-2.5,5.5) H12(-1.5,5.5) H13(-0.5,5.5) H14(0.5,5.5) H15(1.5,5.5) H16(2.5,5.5) H17(3.5,5.5) H18(4.5,5.5) H19(5.5,5.5) H20(6.5,5.5) H21(7.5,5.5) H22(8.5,5.5) H23(9.5,5.5) H24(10.5,5.5) H25(11.5,5.5) H26(12.5,5.5) J1(-12.5,4.5) J2(-11.5,4.5) J3(-10.5,4.5) J4(-9.5,4.5) J5(-8.5,4.5) J6(-7.5,4.5) J7(-6.5,4.5) J8(-5.5,4.5) J9(-4.5,4.5) J10(-3.5,4.5) J11(-2.5,4.5) J12(-1.5,4.5) J13(-0.5,4.5) J14(0.5,4.5) J15(1.5,4.5) J16(2.5,4.5) J17(3.5,4.5) J18(4.5,4.5) J19(5.5,4.5) J20(6.5,4.5) J21(7.5,4.5) J22(8.5,4.5) J23(9.5,4.5) J24(10.5,4.5) J25(11.5,4.5) J26(12.5,4.5) K1(-12.5,3.5) K2(-11.5,3.5) K3(-10.5,3.5) K4(-9.5,3.5) K5(-8.5,3.5) K6(-7.5,3.5) K7(-6.5,3.5) K8(-5.5,3.5) K9(-4.5,3.5) K10(-3.5,3.5) K11(-2.5,3.5) K12(-1.5,3.5) K13(-0.5,3.5) K14(0.5,3.5) K15(1.5,3.5) K16(2.5,3.5) K17(3.5,3.5) K18(4.5,3.5) K19(5.5,3.5) K20(6.5,3.5) K21(7.5,3.5) K22(8.5,3.5) K23(9.5,3.5) K24(10.5,3.5) K25(11.5,3.5) K26(12.5,3.5) L1(-12.5,2.5) L2(-11.5,2.5) L3(-10.5,2.5) L4(-9.5,2.5) L5(-8.5,2.5) L6(-7.5,2.5) L7(-6.5,2.5) L8(-5.5,2.5) L9(-4.5,2.5) L10(-3.5,2.5) L11(-2.5,2.5) L12(-1.5,2.5) L13(-0.5,2.5) L14(0.5,2.5) L15(1.5,2.5) L16(2.5,2.5) L17(3.5,2.5) L18(4.5,2.5) L19(5.5,2.5) L20(6.5,2.5) L21(7.5,2.5) L22(8.5,2.5) L23(9.5,2.5) L24(10.5,2.5) L25(11.5,2.5) L26(12.5,2.5) M1(-12.5,1.5) M2(-11.5,1.5) M3(-10.5,1.5) M4(-9.5,1.5) M5(-8.5,1.5) M6(-7.5,1.5) M7(-6.5,1.5) M8(-5.5,1.5) M9(-4.5,1.5) M10(-3.5,1.5) M11(-2.5,1.5) M12(-1.5,1.5) M13(-0.5,1.5) M14(0.5,1.5) M15(1.5,1.5) M16(2.5,1.5) M17(3.5,1.5) M18(4.5,1.5) M19(5.5,1.5) M20(6.5,1.5) M21(7.5,1.5) M22(8.5,1.5) M23(9.5,1.5) M24(10.5,1.5) M25(11.5,1.5) M26(12.5,1.5) N1(-12.5,0.5) N2(-11.5,0.5) N3(-10.5,0.5) N4(-9.5,0.5) N5(-8.5,0.5) N6(-7.5,0.5) N7(-6.5,0.5) N8(-5.5,0.5) N9(-4.5,0.5) N10(-3.5,0.5) N11(-2.5,0.5) N12(-1.5,0.5) N13(-0.5,0.5) N14(0.5,0.5) N15(1.5,0.5) N16(2.5,0.5) N17(3.5,0.5) N18(4.5,0.5) N19(5.5,0.5) N20(6.5,0.5) N21(7.5,0.5) N22(8.5,0.5) N23(9.5,0.5) N24(10.5,0.5) N25(11.5,0.5) N26(12.5,0.5) P1(-12.5,-0.5) P2(-11.5,-0.5) P3(-10.5,-0.5) P4(-9.5,-0.5) P5(-8.5,-0.5) P6(-7.5,-0.5) P7(-6.5,-0.5) P8(-5.5,-0.5) P9(-4.5,-0.5) P10(-3.5,-0.5) P11(-2.5,-0.5) P12(-1.5,-0.5) P13(-0.5,-0.5) P14(0.5,-0.5) P15(1.5,-0.5) P16(2.5,-0.5) P17(3.5,-0.5) P18(4.5,-0.5) P19(5.5,-0.5) P20(6.5,-0.5) P21(7.5,-0.5) P22(8.5,-0.5) P23(9.5,-0.5) P24(10.5,-0.5) P25(11.5,-0.5) P26(12.5,-0.5) R1(-12.5,-1.5) R2(-11.5,-1.5) R3(-10.5,-1.5) R4(-9.5,-1.5) R5(-8.5,-1.5) R6(-7.5,-1.5) R7(-6.5,-1.5) R8(-5.5,-1.5) R9(-4.5,-1.5) R10(-3.5,-1.5) R11(-2.5,-1.5) R12(-1.5,-1.5) R13(-0.5,-1.5) R14(0.5,-1.5) R15(1.5,-1.5) R16(2.5,-1.5) R17(3.5,-1.5) R18(4.5,-1.5) R19(5.5,-1.5) R20(6.5,-1.5) R21(7.5,-1.5) R22(8.5,-1.5) R23(9.5,-1.5) R24(10.5,-1.5) R25(11.5,-1.5) R26(12.5,-1.5) T1(-12.5,-2.5) T2(-11.5,-2.5) T3(-10.5,-2.5) T4(-9.5,-2.5) T5(-8.5,-2.5) T6(-7.5,-2.5) T7(-6.5,-2.5) T8(-5.5,-2.5) T9(-4.5,-2.5) T10(-3.5,-2.5) T11(-2.5,-2.5) T12(-1.5,-2.5) T13(-0.5,-2.5) T14(0.5,-2.5) T15(1.5,-2.5) T16(2.5,-2.5) T17(3.5,-2.5) T18(4.5,-2.5) T19(5.5,-2.5) T20(6.5,-2.5) T21(7.5,-2.5) T22(8.5,-2.5) T23(9.5,-2.5) T24(10.5,-2.5) T25(11.5,-2.5) T26(12.5,-2.5) U1(-12.5,-3.5) U2(-11.5,-3.5) U3(-10.5,-3.5) U4(-9.5,-3.5) U5(-8.5,-3.5) U6(-7.5,-3.5) U7(-6.5,-3.5) U8(-5.5,-3.5) U9(-4.5,-3.5) U10(-3.5,-3.5) U11(-2.5,-3.5) U12(-1.5,-3.5) U13(-0.5,-3.5) U14(0.5,-3.5) U15(1.5,-3.5) U16(2.5,-3.5) U17(3.5,-3.5) U18(4.5,-3.5) U19(5.5,-3.5) U20(6.5,-3.5) U21(7.5,-3.5) U22(8.5,-3.5) U23(9.5,-3.5) U24(10.5,-3.5) U25(11.5,-3.5) U26(12.5,-3.5) V1(-12.5,-4.5) V2(-11.5,-4.5) V3(-10.5,-4.5) V4(-9.5,-4.5) V5(-8.5,-4.5) V6(-7.5,-4.5) V7(-6.5,-4.5) V8(-5.5,-4.5) V9(-4.5,-4.5) V10(-3.5,-4.5) V11(-2.5,-4.5) V12(-1.5,-4.5) V13(-0.5,-4.5) V14(0.5,-4.5) V15(1.5,-4.5) V16(2.5,-4.5) V17(3.5,-4.5) V18(4.5,-4.5) V19(5.5,-4.5) V20(6.5,-4.5) V21(7.5,-4.5) V22(8.5,-4.5) V23(9.5,-4.5) V24(10.5,-4.5) V25(11.5,-4.5) V26(12.5,-4.5) W1(-12.5,-5.5) W2(-11.5,-5.5) W3(-10.5,-5.5) W4(-9.5,-5.5) W5(-8.5,-5.5) W6(-7.5,-5.5) W7(-6.5,-5.5) W8(-5.5,-5.5) W9(-4.5,-5.5) W10(-3.5,-5.5) W11(-2.5,-5.5) W12(-1.5,-5.5) W13(-0.5,-5.5) W14(0.5,-5.5) W15(1.5,-5.5) W16(2.5,-5.5) W17(3.5,-5.5) W18(4.5,-5.5) W19(5.5,-5.5) W20(6.5,-5.5) W21(7.5,-5.5) W22(8.5,-5.5) W23(9.5,-5.5) W24(10.5,-5.5) W25(11.5,-5.5) W26(12.5,-5.5) Y1(-12.5,-6.5) Y2(-11.5,-6.5) Y3(-10.5,-6.5) Y4(-9.5,-6.5) Y5(-8.5,-6.5) Y6(-7.5,-6.5) Y7(-6.5,-6.5) Y8(-5.5,-6.5) Y9(-4.5,-6.5) Y10(-3.5,-6.5) Y11(-2.5,-6.5) Y12(-1.5,-6.5) Y13(-0.5,-6.5) Y14(0.5,-6.5) Y15(1.5,-6.5) Y16(2.5,-6.5) Y17(3.5,-6.5) Y18(4.5,-6.5) Y19(5.5,-6.5) Y20(6.5,-6.5) Y21(7.5,-6.5) Y22(8.5,-6.5) Y23(9.5,-6.5) Y24(10.5,-6.5) Y25(11.5,-6.5) Y26(12.5,-6.5)
Top Overlay:
  lines w0.15: -13.5,-13.5 13.5,-13.5 13.5,13.5 -12.7,13.5 -13.5,12.7 -13.5,-13.5

## BGA676-1R27-35X35 [mm]
pads (676):
  round 0.6 smd: A1(-15.875,15.875) A2(-14.605,15.875) A3(-13.335,15.875) A4(-12.065,15.875) A5(-10.795,15.875) A6(-9.525,15.875) A7(-8.255,15.875) A8(-6.985,15.875) A9(-5.715,15.875) A10(-4.445,15.875) A11(-3.175,15.875) A12(-1.905,15.875) A13(-0.635,15.875) A14(0.635,15.875) A15(1.905,15.875) A16(3.175,15.875) A17(4.445,15.875) A18(5.715,15.875) A19(6.985,15.875) A20(8.255,15.875) A21(9.525,15.875) A22(10.795,15.875) A23(12.065,15.875) A24(13.335,15.875) A25(14.605,15.875) A26(15.875,15.875) AA1(-15.875,-9.525) AA2(-14.605,-9.525) AA3(-13.335,-9.525) AA4(-12.065,-9.525) AA5(-10.795,-9.525) AA6(-9.525,-9.525) AA7(-8.255,-9.525) AA8(-6.985,-9.525) AA9(-5.715,-9.525) AA10(-4.445,-9.525) AA11(-3.175,-9.525) AA12(-1.905,-9.525) AA13(-0.635,-9.525) AA14(0.635,-9.525) AA15(1.905,-9.525) AA16(3.175,-9.525) AA17(4.445,-9.525) AA18(5.715,-9.525) AA19(6.985,-9.525) AA20(8.255,-9.525) AA21(9.525,-9.525) AA22(10.795,-9.525) AA23(12.065,-9.525) AA24(13.335,-9.525) AA25(14.605,-9.525) AA26(15.875,-9.525) AB1(-15.875,-10.795) AB2(-14.605,-10.795) AB3(-13.335,-10.795) AB4(-12.065,-10.795) AB5(-10.795,-10.795) AB6(-9.525,-10.795) AB7(-8.255,-10.795) AB8(-6.985,-10.795) AB9(-5.715,-10.795) AB10(-4.445,-10.795) AB11(-3.175,-10.795) AB12(-1.905,-10.795) AB13(-0.635,-10.795) AB14(0.635,-10.795) AB15(1.905,-10.795) AB16(3.175,-10.795) AB17(4.445,-10.795) AB18(5.715,-10.795) AB19(6.985,-10.795) AB20(8.255,-10.795) AB21(9.525,-10.795) AB22(10.795,-10.795) AB23(12.065,-10.795) AB24(13.335,-10.795) AB25(14.605,-10.795) AB26(15.875,-10.795) AC1(-15.875,-12.065) AC2(-14.605,-12.065) AC3(-13.335,-12.065) AC4(-12.065,-12.065) AC5(-10.795,-12.065) AC6(-9.525,-12.065) AC7(-8.255,-12.065) AC8(-6.985,-12.065) AC9(-5.715,-12.065) AC10(-4.445,-12.065) AC11(-3.175,-12.065) AC12(-1.905,-12.065) AC13(-0.635,-12.065) AC14(0.635,-12.065) AC15(1.905,-12.065) AC16(3.175,-12.065) AC17(4.445,-12.065) AC18(5.715,-12.065) AC19(6.985,-12.065) AC20(8.255,-12.065) AC21(9.525,-12.065) AC22(10.795,-12.065) AC23(12.065,-12.065) AC24(13.335,-12.065) AC25(14.605,-12.065) AC26(15.875,-12.065) AD1(-15.875,-13.335) AD2(-14.605,-13.335) AD3(-13.335,-13.335) AD4(-12.065,-13.335) AD5(-10.795,-13.335) AD6(-9.525,-13.335) AD7(-8.255,-13.335) AD8(-6.985,-13.335) AD9(-5.715,-13.335) AD10(-4.445,-13.335) AD11(-3.175,-13.335) AD12(-1.905,-13.335) AD13(-0.635,-13.335) AD14(0.635,-13.335) AD15(1.905,-13.335) AD16(3.175,-13.335) AD17(4.445,-13.335) AD18(5.715,-13.335) AD19(6.985,-13.335) AD20(8.255,-13.335) AD21(9.525,-13.335) AD22(10.795,-13.335) AD23(12.065,-13.335) AD24(13.335,-13.335) AD25(14.605,-13.335) AD26(15.875,-13.335) AE1(-15.875,-14.605) AE2(-14.605,-14.605) AE3(-13.335,-14.605) AE4(-12.065,-14.605) AE5(-10.795,-14.605) AE6(-9.525,-14.605) AE7(-8.255,-14.605) AE8(-6.985,-14.605) AE9(-5.715,-14.605) AE10(-4.445,-14.605) AE11(-3.175,-14.605) AE12(-1.905,-14.605) AE13(-0.635,-14.605) AE14(0.635,-14.605) AE15(1.905,-14.605) AE16(3.175,-14.605) AE17(4.445,-14.605) AE18(5.715,-14.605) AE19(6.985,-14.605) AE20(8.255,-14.605) AE21(9.525,-14.605) AE22(10.795,-14.605) AE23(12.065,-14.605) AE24(13.335,-14.605) AE25(14.605,-14.605) AE26(15.875,-14.605) AF1(-15.875,-15.875) AF2(-14.605,-15.875) AF3(-13.335,-15.875) AF4(-12.065,-15.875) AF5(-10.795,-15.875) AF6(-9.525,-15.875) AF7(-8.255,-15.875) AF8(-6.985,-15.875) AF9(-5.715,-15.875) AF10(-4.445,-15.875) AF11(-3.175,-15.875) AF12(-1.905,-15.875) AF13(-0.635,-15.875) AF14(0.635,-15.875) AF15(1.905,-15.875) AF16(3.175,-15.875) AF17(4.445,-15.875) AF18(5.715,-15.875) AF19(6.985,-15.875) AF20(8.255,-15.875) AF21(9.525,-15.875) AF22(10.795,-15.875) AF23(12.065,-15.875) AF24(13.335,-15.875) AF25(14.605,-15.875) AF26(15.875,-15.875) B1(-15.875,14.605) B2(-14.605,14.605) B3(-13.335,14.605) B4(-12.065,14.605) B5(-10.795,14.605) B6(-9.525,14.605) B7(-8.255,14.605) B8(-6.985,14.605) B9(-5.715,14.605) B10(-4.445,14.605) B11(-3.175,14.605) B12(-1.905,14.605) B13(-0.635,14.605) B14(0.635,14.605) B15(1.905,14.605) B16(3.175,14.605) B17(4.445,14.605) B18(5.715,14.605) B19(6.985,14.605) B20(8.255,14.605) B21(9.525,14.605) B22(10.795,14.605) B23(12.065,14.605) B24(13.335,14.605) B25(14.605,14.605) B26(15.875,14.605) C1(-15.875,13.335) C2(-14.605,13.335) C3(-13.335,13.335) C4(-12.065,13.335) C5(-10.795,13.335) C6(-9.525,13.335) C7(-8.255,13.335) C8(-6.985,13.335) C9(-5.715,13.335) C10(-4.445,13.335) C11(-3.175,13.335) C12(-1.905,13.335) C13(-0.635,13.335) C14(0.635,13.335) C15(1.905,13.335) C16(3.175,13.335) C17(4.445,13.335) C18(5.715,13.335) C19(6.985,13.335) C20(8.255,13.335) C21(9.525,13.335) C22(10.795,13.335) C23(12.065,13.335) C24(13.335,13.335) C25(14.605,13.335) C26(15.875,13.335) D1(-15.875,12.065) D2(-14.605,12.065) D3(-13.335,12.065) D4(-12.065,12.065) D5(-10.795,12.065) D6(-9.525,12.065) D7(-8.255,12.065) D8(-6.985,12.065) D9(-5.715,12.065) D10(-4.445,12.065) D11(-3.175,12.065) D12(-1.905,12.065) D13(-0.635,12.065) D14(0.635,12.065) D15(1.905,12.065) D16(3.175,12.065) D17(4.445,12.065) D18(5.715,12.065) D19(6.985,12.065) D20(8.255,12.065) D21(9.525,12.065) D22(10.795,12.065) D23(12.065,12.065) D24(13.335,12.065) D25(14.605,12.065) D26(15.875,12.065) E1(-15.875,10.795) E2(-14.605,10.795) E3(-13.335,10.795) E4(-12.065,10.795) E5(-10.795,10.795) E6(-9.525,10.795) E7(-8.255,10.795) E8(-6.985,10.795) E9(-5.715,10.795) E10(-4.445,10.795) E11(-3.175,10.795) E12(-1.905,10.795) E13(-0.635,10.795) E14(0.635,10.795) E15(1.905,10.795) E16(3.175,10.795) E17(4.445,10.795) E18(5.715,10.795) E19(6.985,10.795) E20(8.255,10.795) E21(9.525,10.795) E22(10.795,10.795) E23(12.065,10.795) E24(13.335,10.795) E25(14.605,10.795) E26(15.875,10.795) F1(-15.875,9.525) F2(-14.605,9.525) F3(-13.335,9.525) F4(-12.065,9.525) F5(-10.795,9.525) F6(-9.525,9.525) F7(-8.255,9.525) F8(-6.985,9.525) F9(-5.715,9.525) F10(-4.445,9.525) F11(-3.175,9.525) F12(-1.905,9.525) F13(-0.635,9.525) F14(0.635,9.525) F15(1.905,9.525) F16(3.175,9.525) F17(4.445,9.525) F18(5.715,9.525) F19(6.985,9.525) F20(8.255,9.525) F21(9.525,9.525) F22(10.795,9.525) F23(12.065,9.525) F24(13.335,9.525) F25(14.605,9.525) F26(15.875,9.525) G1(-15.875,8.255) G2(-14.605,8.255) G3(-13.335,8.255) G4(-12.065,8.255) G5(-10.795,8.255) G6(-9.525,8.255) G7(-8.255,8.255) G8(-6.985,8.255) G9(-5.715,8.255) G10(-4.445,8.255) G11(-3.175,8.255) G12(-1.905,8.255) G13(-0.635,8.255) G14(0.635,8.255) G15(1.905,8.255) G16(3.175,8.255) G17(4.445,8.255) G18(5.715,8.255) G19(6.985,8.255) G20(8.255,8.255) G21(9.525,8.255) G22(10.795,8.255) G23(12.065,8.255) G24(13.335,8.255) G25(14.605,8.255) G26(15.875,8.255) H1(-15.875,6.985) H2(-14.605,6.985) H3(-13.335,6.985) H4(-12.065,6.985) H5(-10.795,6.985) H6(-9.525,6.985) H7(-8.255,6.985) H8(-6.985,6.985) H9(-5.715,6.985) H10(-4.445,6.985) H11(-3.175,6.985) H12(-1.905,6.985) H13(-0.635,6.985) H14(0.635,6.985) H15(1.905,6.985) H16(3.175,6.985) H17(4.445,6.985) H18(5.715,6.985) H19(6.985,6.985) H20(8.255,6.985) H21(9.525,6.985) H22(10.795,6.985) H23(12.065,6.985) H24(13.335,6.985) H25(14.605,6.985) H26(15.875,6.985) J1(-15.875,5.715) J2(-14.605,5.715) J3(-13.335,5.715) J4(-12.065,5.715) J5(-10.795,5.715) J6(-9.525,5.715) J7(-8.255,5.715) J8(-6.985,5.715) J9(-5.715,5.715) J10(-4.445,5.715) J11(-3.175,5.715) J12(-1.905,5.715) J13(-0.635,5.715) J14(0.635,5.715) J15(1.905,5.715) J16(3.175,5.715) J17(4.445,5.715) J18(5.715,5.715) J19(6.985,5.715) J20(8.255,5.715) J21(9.525,5.715) J22(10.795,5.715) J23(12.065,5.715) J24(13.335,5.715) J25(14.605,5.715) J26(15.875,5.715) K1(-15.875,4.445) K2(-14.605,4.445) K3(-13.335,4.445) K4(-12.065,4.445) K5(-10.795,4.445) K6(-9.525,4.445) K7(-8.255,4.445) K8(-6.985,4.445) K9(-5.715,4.445) K10(-4.445,4.445) K11(-3.175,4.445) K12(-1.905,4.445) K13(-0.635,4.445) K14(0.635,4.445) K15(1.905,4.445) K16(3.175,4.445) K17(4.445,4.445) K18(5.715,4.445) K19(6.985,4.445) K20(8.255,4.445) K21(9.525,4.445) K22(10.795,4.445) K23(12.065,4.445) K24(13.335,4.445) K25(14.605,4.445) K26(15.875,4.445) L1(-15.875,3.175) L2(-14.605,3.175) L3(-13.335,3.175) L4(-12.065,3.175) L5(-10.795,3.175) L6(-9.525,3.175) L7(-8.255,3.175) L8(-6.985,3.175) L9(-5.715,3.175) L10(-4.445,3.175) L11(-3.175,3.175) L12(-1.905,3.175) L13(-0.635,3.175) L14(0.635,3.175) L15(1.905,3.175) L16(3.175,3.175) L17(4.445,3.175) L18(5.715,3.175) L19(6.985,3.175) L20(8.255,3.175) L21(9.525,3.175) L22(10.795,3.175) L23(12.065,3.175) L24(13.335,3.175) L25(14.605,3.175) L26(15.875,3.175) M1(-15.875,1.905) M2(-14.605,1.905) M3(-13.335,1.905) M4(-12.065,1.905) M5(-10.795,1.905) M6(-9.525,1.905) M7(-8.255,1.905) M8(-6.985,1.905) M9(-5.715,1.905) M10(-4.445,1.905) M11(-3.175,1.905) M12(-1.905,1.905) M13(-0.635,1.905) M14(0.635,1.905) M15(1.905,1.905) M16(3.175,1.905) M17(4.445,1.905) M18(5.715,1.905) M19(6.985,1.905) M20(8.255,1.905) M21(9.525,1.905) M22(10.795,1.905) M23(12.065,1.905) M24(13.335,1.905) M25(14.605,1.905) M26(15.875,1.905) N1(-15.875,0.635) N2(-14.605,0.635) N3(-13.335,0.635) N4(-12.065,0.635) N5(-10.795,0.635) N6(-9.525,0.635) N7(-8.255,0.635) N8(-6.985,0.635) N9(-5.715,0.635) N10(-4.445,0.635) N11(-3.175,0.635) N12(-1.905,0.635) N13(-0.635,0.635) N14(0.635,0.635) N15(1.905,0.635) N16(3.175,0.635) N17(4.445,0.635) N18(5.715,0.635) N19(6.985,0.635) N20(8.255,0.635) N21(9.525,0.635) N22(10.795,0.635) N23(12.065,0.635) N24(13.335,0.635) N25(14.605,0.635) N26(15.875,0.635) P1(-15.875,-0.635) P2(-14.605,-0.635) P3(-13.335,-0.635) P4(-12.065,-0.635) P5(-10.795,-0.635) P6(-9.525,-0.635) P7(-8.255,-0.635) P8(-6.985,-0.635) P9(-5.715,-0.635) P10(-4.445,-0.635) P11(-3.175,-0.635) P12(-1.905,-0.635) P13(-0.635,-0.635) P14(0.635,-0.635) P15(1.905,-0.635) P16(3.175,-0.635) P17(4.445,-0.635) P18(5.715,-0.635) P19(6.985,-0.635) P20(8.255,-0.635) P21(9.525,-0.635) P22(10.795,-0.635) P23(12.065,-0.635) P24(13.335,-0.635) P25(14.605,-0.635) P26(15.875,-0.635) R1(-15.875,-1.905) R2(-14.605,-1.905) R3(-13.335,-1.905) R4(-12.065,-1.905) R5(-10.795,-1.905) R6(-9.525,-1.905) R7(-8.255,-1.905) R8(-6.985,-1.905) R9(-5.715,-1.905) R10(-4.445,-1.905) R11(-3.175,-1.905) R12(-1.905,-1.905) R13(-0.635,-1.905) R14(0.635,-1.905) R15(1.905,-1.905) R16(3.175,-1.905) R17(4.445,-1.905) R18(5.715,-1.905) R19(6.985,-1.905) R20(8.255,-1.905) R21(9.525,-1.905) R22(10.795,-1.905) R23(12.065,-1.905) R24(13.335,-1.905) R25(14.605,-1.905) R26(15.875,-1.905) T1(-15.875,-3.175) T2(-14.605,-3.175) T3(-13.335,-3.175) T4(-12.065,-3.175) T5(-10.795,-3.175) T6(-9.525,-3.175) T7(-8.255,-3.175) T8(-6.985,-3.175) T9(-5.715,-3.175) T10(-4.445,-3.175) T11(-3.175,-3.175) T12(-1.905,-3.175) T13(-0.635,-3.175) T14(0.635,-3.175) T15(1.905,-3.175) T16(3.175,-3.175) T17(4.445,-3.175) T18(5.715,-3.175) T19(6.985,-3.175) T20(8.255,-3.175) T21(9.525,-3.175) T22(10.795,-3.175) T23(12.065,-3.175) T24(13.335,-3.175) T25(14.605,-3.175) T26(15.875,-3.175) U1(-15.875,-4.445) U2(-14.605,-4.445) U3(-13.335,-4.445) U4(-12.065,-4.445) U5(-10.795,-4.445) U6(-9.525,-4.445) U7(-8.255,-4.445) U8(-6.985,-4.445) U9(-5.715,-4.445) U10(-4.445,-4.445) U11(-3.175,-4.445) U12(-1.905,-4.445) U13(-0.635,-4.445) U14(0.635,-4.445) U15(1.905,-4.445) U16(3.175,-4.445) U17(4.445,-4.445) U18(5.715,-4.445) U19(6.985,-4.445) U20(8.255,-4.445) U21(9.525,-4.445) U22(10.795,-4.445) U23(12.065,-4.445) U24(13.335,-4.445) U25(14.605,-4.445) U26(15.875,-4.445) V1(-15.875,-5.715) V2(-14.605,-5.715) V3(-13.335,-5.715) V4(-12.065,-5.715) V5(-10.795,-5.715) V6(-9.525,-5.715) V7(-8.255,-5.715) V8(-6.985,-5.715) V9(-5.715,-5.715) V10(-4.445,-5.715) V11(-3.175,-5.715) V12(-1.905,-5.715) V13(-0.635,-5.715) V14(0.635,-5.715) V15(1.905,-5.715) V16(3.175,-5.715) V17(4.445,-5.715) V18(5.715,-5.715) V19(6.985,-5.715) V20(8.255,-5.715) V21(9.525,-5.715) V22(10.795,-5.715) V23(12.065,-5.715) V24(13.335,-5.715) V25(14.605,-5.715) V26(15.875,-5.715) W1(-15.875,-6.985) W2(-14.605,-6.985) W3(-13.335,-6.985) W4(-12.065,-6.985) W5(-10.795,-6.985) W6(-9.525,-6.985) W7(-8.255,-6.985) W8(-6.985,-6.985) W9(-5.715,-6.985) W10(-4.445,-6.985) W11(-3.175,-6.985) W12(-1.905,-6.985) W13(-0.635,-6.985) W14(0.635,-6.985) W15(1.905,-6.985) W16(3.175,-6.985) W17(4.445,-6.985) W18(5.715,-6.985) W19(6.985,-6.985) W20(8.255,-6.985) W21(9.525,-6.985) W22(10.795,-6.985) W23(12.065,-6.985) W24(13.335,-6.985) W25(14.605,-6.985) W26(15.875,-6.985) Y1(-15.875,-8.255) Y2(-14.605,-8.255) Y3(-13.335,-8.255) Y4(-12.065,-8.255) Y5(-10.795,-8.255) Y6(-9.525,-8.255) Y7(-8.255,-8.255) Y8(-6.985,-8.255) Y9(-5.715,-8.255) Y10(-4.445,-8.255) Y11(-3.175,-8.255) Y12(-1.905,-8.255) Y13(-0.635,-8.255) Y14(0.635,-8.255) Y15(1.905,-8.255) Y16(3.175,-8.255) Y17(4.445,-8.255) Y18(5.715,-8.255) Y19(6.985,-8.255) Y20(8.255,-8.255) Y21(9.525,-8.255) Y22(10.795,-8.255) Y23(12.065,-8.255) Y24(13.335,-8.255) Y25(14.605,-8.255) Y26(15.875,-8.255)
Top Overlay:
  lines w0.15: -17.5,-17.5 -17.5,16.7 -16.7,17.5 17.5,17.5 17.5,-17.5 -17.5,-17.5